# EAGLE library part ST? (library Transformer)
Split Bobbin Low Power Transformer 115V Input Datasheet <https://belfuse.com/resources/datasheets/signaltransformer/ds-st-st-series.pdf>
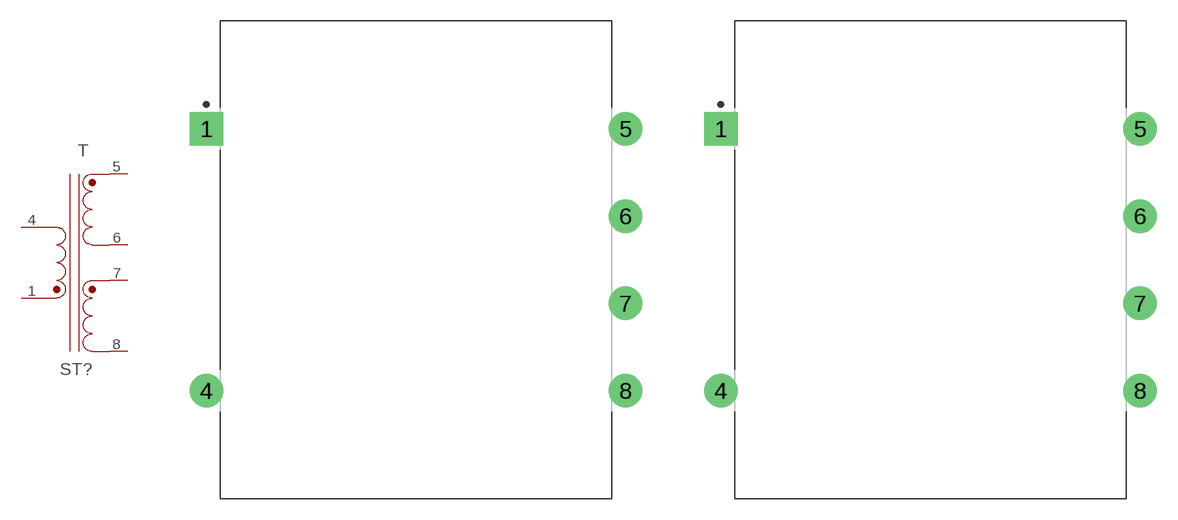
[diagram p2: symbol with the pads of XFMR_ST-2; footprints XFMR_ST-2, XFMR_ST-3]

Designator prefix T

## ST-2-10**# (CATEGORY: Transformer; DESCRIPTION: Split Bobbin Low Power Transformer | 1.1VA Power | 115V Input; MANUFACTURER: Signal Transformer; MPN: ST-2-10**#; OPERATING_TEMP: -; PART_STATUS: Active; ROHS_COMPLIANT: RoHS Compliant; SERIES: ST; SUB-CATEGORY: Power; VALUE: ST-2), ST-2-12**# (CATEGORY: Transformer; DESCRIPTION: Split Bobbin Low Power Transformer | 1.1VA Power | 115V Input; MANUFACTURER: Signal Transformer; MPN: ST-2-12**#; OPERATING_TEMP: -; PART_STATUS: Active; ROHS_COMPLIANT: RoHS Compliant; SERIES: ST; SUB-CATEGORY: Power; VALUE: ST-2), ST-2-120 (CATEGORY: Transformer; DESCRIPTION: Split Bobbin Low Power Transformer | 1.1VA Power | 115V Input; MANUFACTURER: Signal Transformer; MPN: ST-2-120; OPERATING_TEMP: -; PART_STATUS: Active; ROHS_COMPLIANT: RoHS Compliant; SERIES: ST; SUB-CATEGORY: Power; VALUE: ST-2), ST-2-16**# (CATEGORY: Transformer; DESCRIPTION: Split Bobbin Low Power Transformer | 1.1VA Power | 115V Input; MANUFACTURER: Signal Transformer; MPN: ST-2-16**#; OPERATING_TEMP: -; PART_STATUS: Active; ROHS_COMPLIANT: RoHS Compliant; SERIES: ST; SUB-CATEGORY: Power; VALUE: ST-2), ST-2-20**# (CATEGORY: Transformer; DESCRIPTION: Split Bobbin Low Power Transformer | 1.1VA Power | 115V Input; MANUFACTURER: Signal Transformer; MPN: ST-2-20**#; OPERATING_TEMP: -; PART_STATUS: Active; ROHS_COMPLIANT: RoHS Compliant; SERIES: ST; SUB-CATEGORY: Power; VALUE: ST-2), ST-2-24**# (CATEGORY: Transformer; DESCRIPTION: Split Bobbin Low Power Transformer | 1.1VA Power | 115V Input; MANUFACTURER: Signal Transformer; MPN: ST-2-24**#; OPERATING_TEMP: -; PART_STATUS: Active; ROHS_COMPLIANT: RoHS Compliant; SERIES: ST; SUB-CATEGORY: Power; VALUE: ST-2), ST-2-28 (CATEGORY: Transformer; DESCRIPTION: Split Bobbin Low Power Transformer | 1.1VA Power | 115V Input; MANUFACTURER: Signal Transformer; MPN: ST-2-28; OPERATING_TEMP: -; PART_STATUS: Active; ROHS_COMPLIANT: RoHS Compliant; SERIES: ST; SUB-CATEGORY: Power; VALUE: ST-2), ST-2-36 (CATEGORY: Transformer; DESCRIPTION: Split Bobbin Low Power Transformer | 1.1VA Power | 115V Input; MANUFACTURER: Signal Transformer; MPN: ST-2-36; OPERATING_TEMP: -; PART_STATUS: Active; ROHS_COMPLIANT: RoHS Compliant; SERIES: ST; SUB-CATEGORY: Power; VALUE: ST-2), ST-2-48 (CATEGORY: Transformer; DESCRIPTION: Split Bobbin Low Power Transformer | 1.1VA Power | 115V Input; MANUFACTURER: Signal Transformer; MPN: ST-2-48; OPERATING_TEMP: -; PART_STATUS: Active; ROHS_COMPLIANT: RoHS Compliant; SERIES: ST; SUB-CATEGORY: Power; VALUE: ST-2), ST-2-56 (CATEGORY: Transformer; DESCRIPTION: Split Bobbin Low Power Transformer | 1.1VA Power | 115V Input; MANUFACTURER: Signal Transformer; MPN: ST-2-56; OPERATING_TEMP: -; PART_STATUS: Active; ROHS_COMPLIANT: RoHS Compliant; SERIES: ST; SUB-CATEGORY: Power; VALUE: ST-2)  [XFMR_ST-2]
1  1  pas
4  4  pas
5  5  pas
6  6  pas
7  7  pas
8  8  pas

## ST-3-10*# (CATEGORY: Transformer; DESCRIPTION: Split Bobbin Low Power Transformer | 2.4VA Power | 115V Input; MANUFACTURER: Signal Transformer; MPN: ST-3-10*#; OPERATING_TEMP: -; PART_STATUS: Active; ROHS_COMPLIANT: RoHS Compliant; SERIES: ST; SUB-CATEGORY: Power; VALUE: ST-3), ST-3-12*# (CATEGORY: Transformer; DESCRIPTION: Split Bobbin Low Power Transformer | 2.4VA Power | 115V Input; MANUFACTURER: Signal Transformer; MPN: ST-3-12*#; OPERATING_TEMP: -; PART_STATUS: Active; ROHS_COMPLIANT: RoHS Compliant; SERIES: ST; SUB-CATEGORY: Power; VALUE: ST-3), ST-3-120 (CATEGORY: Transformer; DESCRIPTION: Split Bobbin Low Power Transformer | 2.4VA Power | 115V Input; MANUFACTURER: Signal Transformer; MPN: ST-3-120; OPERATING_TEMP: -; PART_STATUS: Active; ROHS_COMPLIANT: RoHS Compliant; SERIES: ST; SUB-CATEGORY: Power; VALUE: ST-3), ST-3-16*# (CATEGORY: Transformer; DESCRIPTION: Split Bobbin Low Power Transformer | 2.4VA Power | 115V Input; MANUFACTURER: Signal Transformer; MPN: ST-3-16*#; OPERATING_TEMP: -; PART_STATUS: Active; ROHS_COMPLIANT: RoHS Compliant; SERIES: ST; SUB-CATEGORY: Power; VALUE: ST-3), ST-3-20*# (CATEGORY: Transformer; DESCRIPTION: Split Bobbin Low Power Transformer | 2.4VA Power | 115V Input; MANUFACTURER: Signal Transformer; MPN: ST-3-20*#; OPERATING_TEMP: -; PART_STATUS: Active; ROHS_COMPLIANT: RoHS Compliant; SERIES: ST; SUB-CATEGORY: Power; VALUE: ST-3), ST-3-24*# (CATEGORY: Transformer; DESCRIPTION: Split Bobbin Low Power Transformer | 2.4VA Power | 115V Input; MANUFACTURER: Signal Transformer; MPN: ST-3-24*#; OPERATING_TEMP: -; PART_STATUS: Active; ROHS_COMPLIANT: RoHS Compliant; SERIES: ST; SUB-CATEGORY: Power; VALUE: ST-3), ST-3-28 (CATEGORY: Transformer; DESCRIPTION: Split Bobbin Low Power Transformer | 2.4VA Power | 115V Input; MANUFACTURER: Signal Transformer; MPN: ST-3-28; OPERATING_TEMP: -; PART_STATUS: Active; ROHS_COMPLIANT: RoHS Compliant; SERIES: ST; SUB-CATEGORY: Power; VALUE: ST-3), ST-3-36 (CATEGORY: Transformer; DESCRIPTION: Split Bobbin Low Power Transformer | 2.4VA Power | 115V Input; MANUFACTURER: Signal Transformer; MPN: ST-3-36; OPERATING_TEMP: -; PART_STATUS: Active; ROHS_COMPLIANT: RoHS Compliant; SERIES: ST; SUB-CATEGORY: Power; VALUE: ST-3), ST-3-48 (CATEGORY: Transformer; DESCRIPTION: Split Bobbin Low Power Transformer | 2.4VA Power | 115V Input; MANUFACTURER: Signal Transformer; MPN: ST-3-48; OPERATING_TEMP: -; PART_STATUS: Active; ROHS_COMPLIANT: RoHS Compliant; SERIES: ST; SUB-CATEGORY: Power; VALUE: ST-3), ST-3-56 (CATEGORY: Transformer; DESCRIPTION: Split Bobbin Low Power Transformer | 2.4VA Power | 115V Input; MANUFACTURER: Signal Transformer; MPN: ST-3-56; OPERATING_TEMP: -; PART_STATUS: Active; ROHS_COMPLIANT: RoHS Compliant; SERIES: ST; SUB-CATEGORY: Power; VALUE: ST-3)  [XFMR_ST-3]
Pads as for XFMR_ST-2

## ST-4-10*# (CATEGORY: Transformer; DESCRIPTION: Split Bobbin Low Power Transformer | 6VA Power | 115V Input; MANUFACTURER: Signal Transformer; MPN: ST-4-10*#; OPERATING_TEMP: -; PART_STATUS: Active; ROHS_COMPLIANT: RoHS Compliant; SERIES: ST; SUB-CATEGORY: Power; VALUE: ST-4), ST-4-12*# (CATEGORY: Transformer; DESCRIPTION: Split Bobbin Low Power Transformer | 6VA Power | 115V Input; MANUFACTURER: Signal Transformer; MPN: ST-4-12*#; OPERATING_TEMP: -; PART_STATUS: Active; ROHS_COMPLIANT: RoHS Compliant; SERIES: ST; SUB-CATEGORY: Power; VALUE: ST-4), ST-4-120 (CATEGORY: Transformer; DESCRIPTION: Split Bobbin Low Power Transformer | 6VA Power | 115V Input; MANUFACTURER: Signal Transformer; MPN: ST-4-120; OPERATING_TEMP: -; PART_STATUS: Active; ROHS_COMPLIANT: RoHS Compliant; SERIES: ST; SUB-CATEGORY: Power; VALUE: ST-4), ST-4-16*# (CATEGORY: Transformer; DESCRIPTION: Split Bobbin Low Power Transformer | 6VA Power | 115V Input; MANUFACTURER: Signal Transformer; MPN: ST-4-16*#; OPERATING_TEMP: -; PART_STATUS: Active; ROHS_COMPLIANT: RoHS Compliant; SERIES: ST; SUB-CATEGORY: Power; VALUE: ST-4), ST-4-20*# (CATEGORY: Transformer; DESCRIPTION: Split Bobbin Low Power Transformer | 6VA Power | 115V Input; MANUFACTURER: Signal Transformer; MPN: ST-4-20*#; OPERATING_TEMP: -; PART_STATUS: Active; ROHS_COMPLIANT: RoHS Compliant; SERIES: ST; SUB-CATEGORY: Power; VALUE: ST-4), ST-4-24*# (CATEGORY: Transformer; DESCRIPTION: Split Bobbin Low Power Transformer | 6VA Power | 115V Input; MANUFACTURER: Signal Transformer; MPN: ST-4-24*#; OPERATING_TEMP: -; PART_STATUS: Active; ROHS_COMPLIANT: RoHS Compliant; SERIES: ST; SUB-CATEGORY: Power; VALUE: ST-4), ST-4-28 (CATEGORY: Transformer; DESCRIPTION: Split Bobbin Low Power Transformer | 6VA Power | 115V Input; MANUFACTURER: Signal Transformer; MPN: ST-4-28; OPERATING_TEMP: -; PART_STATUS: Active; ROHS_COMPLIANT: RoHS Compliant; SERIES: ST; SUB-CATEGORY: Power; VALUE: ST-4), ST-4-36 (CATEGORY: Transformer; DESCRIPTION: Split Bobbin Low Power Transformer | 6VA Power | 115V Input; MANUFACTURER: Signal Transformer; MPN: ST-4-36; OPERATING_TEMP: -; PART_STATUS: Active; ROHS_COMPLIANT: RoHS Compliant; SERIES: ST; SUB-CATEGORY: Power; VALUE: ST-4), ST-4-48 (CATEGORY: Transformer; DESCRIPTION: Split Bobbin Low Power Transformer | 6VA Power | 115V Input; MANUFACTURER: Signal Transformer; MPN: ST-4-48; OPERATING_TEMP: -; PART_STATUS: Active; ROHS_COMPLIANT: RoHS Compliant; SERIES: ST; SUB-CATEGORY: Power; VALUE: ST-4), ST-4-56 (CATEGORY: Transformer; DESCRIPTION: Split Bobbin Low Power Transformer | 6VA Power | 115V Input; MANUFACTURER: Signal Transformer; MPN: ST-4-56; OPERATING_TEMP: -; PART_STATUS: Active; ROHS_COMPLIANT: RoHS Compliant; SERIES: ST; SUB-CATEGORY: Power; VALUE: ST-4)  [XFMR_ST-4]
Pads as for XFMR_ST-2

## ST-5-10*# (CATEGORY: Transformer; DESCRIPTION: Split Bobbin Low Power Transformer | 12VA Power | 115V Input; MANUFACTURER: Signal Transformer; MPN: ST-5-10*#; OPERATING_TEMP: -; PART_STATUS: Active; ROHS_COMPLIANT: RoHS Compliant; SERIES: ST; SUB-CATEGORY: Power; VALUE: ST-5), ST-5-12*# (CATEGORY: Transformer; DESCRIPTION: Split Bobbin Low Power Transformer | 12VA Power | 115V Input; MANUFACTURER: Signal Transformer; MPN: ST-5-12*#; OPERATING_TEMP: -; PART_STATUS: Active; ROHS_COMPLIANT: RoHS Compliant; SERIES: ST; SUB-CATEGORY: Power; VALUE: ST-5), ST-5-120 (CATEGORY: Transformer; DESCRIPTION: Split Bobbin Low Power Transformer | 12VA Power | 115V Input; MANUFACTURER: Signal Transformer; MPN: ST-5-120; OPERATING_TEMP: -; PART_STATUS: Active; ROHS_COMPLIANT: RoHS Compliant; SERIES: ST; SUB-CATEGORY: Power; VALUE: ST-5), ST-5-16*# (CATEGORY: Transformer; DESCRIPTION: Split Bobbin Low Power Transformer | 12VA Power | 115V Input; MANUFACTURER: Signal Transformer; MPN: ST-5-16*#; OPERATING_TEMP: -; PART_STATUS: Active; ROHS_COMPLIANT: RoHS Compliant; SERIES: ST; SUB-CATEGORY: Power; VALUE: ST-5), ST-5-20*# (CATEGORY: Transformer; DESCRIPTION: Split Bobbin Low Power Transformer | 12VA Power | 115V Input; MANUFACTURER: Signal Transformer; MPN: ST-5-20*#; OPERATING_TEMP: -; PART_STATUS: Active; ROHS_COMPLIANT: RoHS Compliant; SERIES: ST; SUB-CATEGORY: Power; VALUE: ST-5), ST-5-24*# (CATEGORY: Transformer; DESCRIPTION: Split Bobbin Low Power Transformer | 12VA Power | 115V Input; MANUFACTURER: Signal Transformer; MPN: ST-5-24*#; OPERATING_TEMP: -; PART_STATUS: Active; ROHS_COMPLIANT: RoHS Compliant; SERIES: ST; SUB-CATEGORY: Power; VALUE: ST-5), ST-5-28 (CATEGORY: Transformer; DESCRIPTION: Split Bobbin Low Power Transformer | 12VA Power | 115V Input; MANUFACTURER: Signal Transformer; MPN: ST-5-28; OPERATING_TEMP: -; PART_STATUS: Active; ROHS_COMPLIANT: RoHS Compliant; SERIES: ST; SUB-CATEGORY: Power; VALUE: ST-5), ST-5-36 (CATEGORY: Transformer; DESCRIPTION: Split Bobbin Low Power Transformer | 12VA Power | 115V Input; MANUFACTURER: Signal Transformer; MPN: ST-5-36; OPERATING_TEMP: -; PART_STATUS: Active; ROHS_COMPLIANT: RoHS Compliant; SERIES: ST; SUB-CATEGORY: Power; VALUE: ST-5), ST-5-48 (CATEGORY: Transformer; DESCRIPTION: Split Bobbin Low Power Transformer | 12VA Power | 115V Input; MANUFACTURER: Signal Transformer; MPN: ST-5-48; OPERATING_TEMP: -; PART_STATUS: Active; ROHS_COMPLIANT: RoHS Compliant; SERIES: ST; SUB-CATEGORY: Power; VALUE: ST-5), ST-5-56 (CATEGORY: Transformer; DESCRIPTION: Split Bobbin Low Power Transformer | 12VA Power | 115V Input; MANUFACTURER: Signal Transformer; MPN: ST-5-56; OPERATING_TEMP: -; PART_STATUS: Active; ROHS_COMPLIANT: RoHS Compliant; SERIES: ST; SUB-CATEGORY: Power; VALUE: ST-5)  [XFMR_ST-5]
Pads as for XFMR_ST-2

## ST-6-10 (CATEGORY: Transformer; DESCRIPTION: Split Bobbin Low Power Transformer | 20VA Power | 115V Input; MANUFACTURER: Signal Transformer; MPN: ST-6-10; OPERATING_TEMP: -; PART_STATUS: Active; ROHS_COMPLIANT: RoHS Compliant; SERIES: ST; SUB-CATEGORY: Power; VALUE: ST-6), ST-6-12 (CATEGORY: Transformer; DESCRIPTION: Split Bobbin Low Power Transformer | 20VA Power | 115V Input; MANUFACTURER: Signal Transformer; MPN: ST-6-12; OPERATING_TEMP: -; PART_STATUS: Active; ROHS_COMPLIANT: RoHS Compliant; SERIES: ST; SUB-CATEGORY: Power; VALUE: ST-6), ST-6-120 (CATEGORY: Transformer; DESCRIPTION: Split Bobbin Low Power Transformer | 20VA Power | 115V Input; MANUFACTURER: Signal Transformer; MPN: ST-6-120; OPERATING_TEMP: -; PART_STATUS: Active; ROHS_COMPLIANT: RoHS Compliant; SERIES: ST; SUB-CATEGORY: Power; VALUE: ST-6), ST-6-16 (CATEGORY: Transformer; DESCRIPTION: Split Bobbin Low Power Transformer | 20VA Power | 115V Input; MANUFACTURER: Signal Transformer; MPN: ST-6-16; OPERATING_TEMP: -; PART_STATUS: Active; ROHS_COMPLIANT: RoHS Compliant; SERIES: ST; SUB-CATEGORY: Power; VALUE: ST-6), ST-6-20 (CATEGORY: Transformer; DESCRIPTION: Split Bobbin Low Power Transformer | 20VA Power | 115V Input; MANUFACTURER: Signal Transformer; MPN: ST-6-20; OPERATING_TEMP: -; PART_STATUS: Active; ROHS_COMPLIANT: RoHS Compliant; SERIES: ST; SUB-CATEGORY: Power; VALUE: ST-6), ST-6-24 (CATEGORY: Transformer; DESCRIPTION: Split Bobbin Low Power Transformer | 20VA Power | 115V Input; MANUFACTURER: Signal Transformer; MPN: ST-6-24; OPERATING_TEMP: -; PART_STATUS: Active; ROHS_COMPLIANT: RoHS Compliant; SERIES: ST; SUB-CATEGORY: Power; VALUE: ST-6), ST-6-28 (CATEGORY: Transformer; DESCRIPTION: Split Bobbin Low Power Transformer | 20VA Power | 115V Input; MANUFACTURER: Signal Transformer; MPN: ST-6-28; OPERATING_TEMP: -; PART_STATUS: Active; ROHS_COMPLIANT: RoHS Compliant; SERIES: ST; SUB-CATEGORY: Power; VALUE: ST-6), ST-6-36 (CATEGORY: Transformer; DESCRIPTION: Split Bobbin Low Power Transformer | 20VA Power | 115V Input; MANUFACTURER: Signal Transformer; MPN: ST-6-36; OPERATING_TEMP: -; PART_STATUS: Active; ROHS_COMPLIANT: RoHS Compliant; SERIES: ST; SUB-CATEGORY: Power; VALUE: ST-6), ST-6-48 (CATEGORY: Transformer; DESCRIPTION: Split Bobbin Low Power Transformer | 20VA Power | 115V Input; MANUFACTURER: Signal Transformer; MPN: ST-6-48; OPERATING_TEMP: -; PART_STATUS: Active; ROHS_COMPLIANT: RoHS Compliant; SERIES: ST; SUB-CATEGORY: Power; VALUE: ST-6), ST-6-56 (CATEGORY: Transformer; DESCRIPTION: Split Bobbin Low Power Transformer | 20VA Power | 115V Input; MANUFACTURER: Signal Transformer; MPN: ST-6-56; OPERATING_TEMP: -; PART_STATUS: Active; ROHS_COMPLIANT: RoHS Compliant; SERIES: ST; SUB-CATEGORY: Power; VALUE: ST-6)  [XFMR_ST-6]
Pads as for XFMR_ST-2

## ST-7-10 (CATEGORY: Transformer; DESCRIPTION: Split Bobbin Low Power Transformer | 36VA Power | 115V Input; MANUFACTURER: Signal Transformer; MPN: ST-7-10; OPERATING_TEMP: -; PART_STATUS: Active; ROHS_COMPLIANT: RoHS Compliant; SERIES: ST; SUB-CATEGORY: Power; VALUE: ST-7), ST-7-12 (CATEGORY: Transformer; DESCRIPTION: Split Bobbin Low Power Transformer | 36VA Power | 115V Input; MANUFACTURER: Signal Transformer; MPN: ST-7-12; OPERATING_TEMP: -; PART_STATUS: Active; ROHS_COMPLIANT: RoHS Compliant; SERIES: ST; SUB-CATEGORY: Power; VALUE: ST-7), ST-7-120 (CATEGORY: Transformer; DESCRIPTION: Split Bobbin Low Power Transformer | 36VA Power | 115V Input; MANUFACTURER: Signal Transformer; MPN: ST-7-120; OPERATING_TEMP: -; PART_STATUS: Active; ROHS_COMPLIANT: RoHS Compliant; SERIES: ST; SUB-CATEGORY: Power; VALUE: ST-7), ST-7-16 (CATEGORY: Transformer; DESCRIPTION: Split Bobbin Low Power Transformer | 36VA Power | 115V Input; MANUFACTURER: Signal Transformer; MPN: ST-7-16; OPERATING_TEMP: -; PART_STATUS: Active; ROHS_COMPLIANT: RoHS Compliant; SERIES: ST; SUB-CATEGORY: Power; VALUE: ST-7), ST-7-20 (CATEGORY: Transformer; DESCRIPTION: Split Bobbin Low Power Transformer | 36VA Power | 115V Input; MANUFACTURER: Signal Transformer; MPN: ST-7-20; OPERATING_TEMP: -; PART_STATUS: Active; ROHS_COMPLIANT: RoHS Compliant; SERIES: ST; SUB-CATEGORY: Power; VALUE: ST-7), ST-7-24 (CATEGORY: Transformer; DESCRIPTION: Split Bobbin Low Power Transformer | 36VA Power | 115V Input; MANUFACTURER: Signal Transformer; MPN: ST-7-24; OPERATING_TEMP: -; PART_STATUS: Active; ROHS_COMPLIANT: RoHS Compliant; SERIES: ST; SUB-CATEGORY: Power; VALUE: ST-7), ST-7-28 (CATEGORY: Transformer; DESCRIPTION: Split Bobbin Low Power Transformer | 36VA Power | 115V Input; MANUFACTURER: Signal Transformer; MPN: ST-7-28; OPERATING_TEMP: -; PART_STATUS: Active; ROHS_COMPLIANT: RoHS Compliant; SERIES: ST; SUB-CATEGORY: Power; VALUE: ST-7), ST-7-36 (CATEGORY: Transformer; DESCRIPTION: Split Bobbin Low Power Transformer | 36VA Power | 115V Input; MANUFACTURER: Signal Transformer; MPN: ST-7-36; OPERATING_TEMP: -; PART_STATUS: Active; ROHS_COMPLIANT: RoHS Compliant; SERIES: ST; SUB-CATEGORY: Power; VALUE: ST-7), ST-7-48 (CATEGORY: Transformer; DESCRIPTION: Split Bobbin Low Power Transformer | 36VA Power | 115V Input; MANUFACTURER: Signal Transformer; MPN: ST-7-48; OPERATING_TEMP: -; PART_STATUS: Active; ROHS_COMPLIANT: RoHS Compliant; SERIES: ST; SUB-CATEGORY: Power; VALUE: ST-7), ST-7-56 (CATEGORY: Transformer; DESCRIPTION: Split Bobbin Low Power Transformer | 36VA Power | 115V Input; MANUFACTURER: Signal Transformer; MPN: ST-7-56; OPERATING_TEMP: -; PART_STATUS: Active; ROHS_COMPLIANT: RoHS Compliant; SERIES: ST; SUB-CATEGORY: Power; VALUE: ST-7)  [XFMR_ST-7]
Pads as for XFMR_ST-2

## Footprint XFMR_ST-2 (pad centres in mm)
drill 1.62 square: 1 0,0
drill 1.62: 4 0,-19.05; 5 30.48,0; 6 30.48,-6.35; 7 30.48,-12.7; 8 30.48,-19.05

## Footprint XFMR_ST-3 (pad centres in mm)
drill 1.62 square: 1 0,0
drill 1.62: 4 0,-19.05; 5 30.48,0; 6 30.48,-6.35; 7 30.48,-12.7; 8 30.48,-19.05

## Footprint XFMR_ST-4 (pad centres in mm)
drill 1.62 square: 1 0,0
drill 1.62: 4 0,-21.59; 5 31.75,0; 6 31.75,-6.35; 7 31.75,-15.24; 8 31.75,-21.59
hole 3.1 at 2.413,-10.795
hole 3.1 at 29.337,-10.795

## Footprint XFMR_ST-5 (pad centres in mm)
drill 1.62 square: 1 0,0
drill 1.62: 4 0,-25.4; 5 35.814,0; 6 35.814,-7.62; 7 35.814,-17.78; 8 35.814,-25.4
hole 3.1 at 2.032,-12.7
hole 3.1 at 33.782,-12.7

## Footprint XFMR_ST-6 (pad centres in mm)
drill 1.62 square: 1 0,0
drill 1.62: 4 0,-25.4; 5 40.64,0; 6 40.64,-7.62; 7 40.64,-17.78; 8 40.64,-25.4
hole 3.1 at 1.27,-12.7
hole 3.1 at 39.37,-12.7

## Footprint XFMR_ST-7 (pad centres in mm)
drill 1.62 square: 1 0,0
drill 1.62: 4 0,-30.48; 5 46.99,0; 6 46.99,-10.16; 7 46.99,-20.32; 8 46.99,-30.48
hole 3.8 at 1.27,12.446
hole 3.8 at 45.72,12.446
hole 3.8 at 1.27,-42.926
hole 3.8 at 45.72,-42.926